# Altium integrated library Resistors_CPF-0805.IntLib: 984 symbols (part 6 of 6)
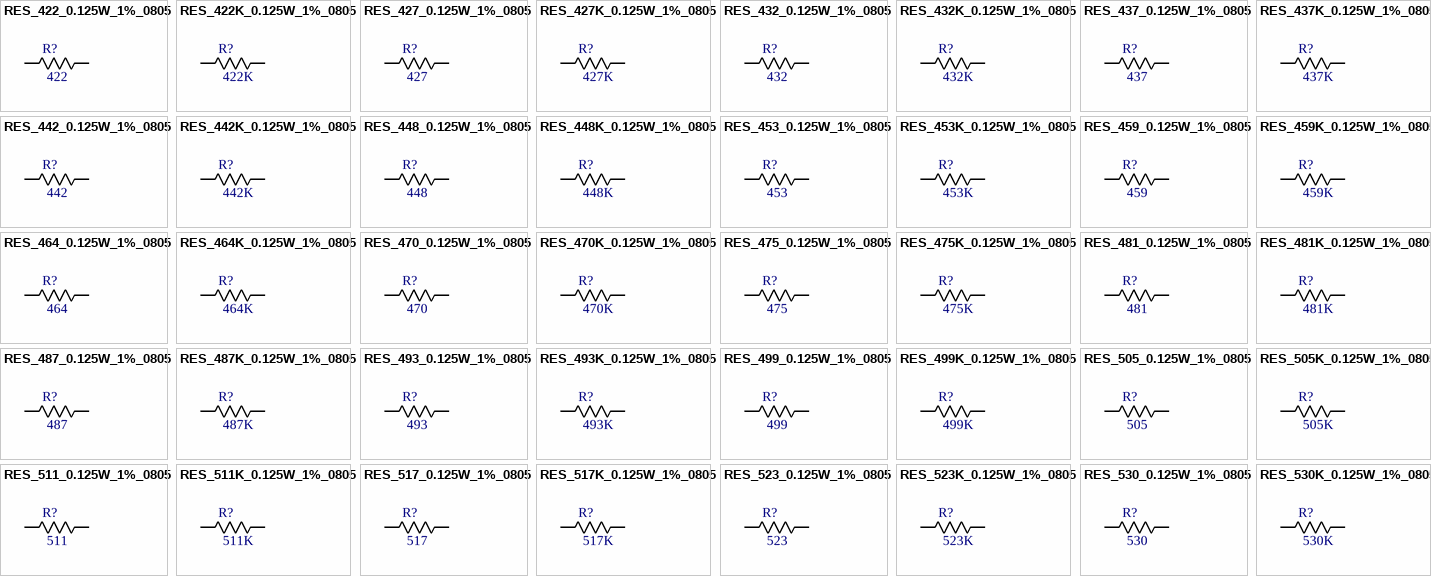
[diagram p29: symbols RES_422_0.125W_1%_0805 to RES_530K_0.125W_1%_0805]

## RES_499_0.125W_1%_0805
designator R?, comment 499
Resistenza SMD TE Connectivity Film sottile; Voltage[V]: 100; Tollerance[%]: 0.1; Serie: CPF; Vendor: TE Connectivity; Type: Resistors; Package: 0805; Power[W]: 0.1; Value[OHM ]: 499
footprint RES_0816_SUS(My_MAXI)
pins: 1, 2

## RES_499K_0.125W_1%_0805
designator R?, comment 499K
Resistenza SMD TE Connectivity Film sottile; Voltage[V]: 100; Tollerance[%]: 0.1; Serie: CPF; Vendor: TE Connectivity; Type: Resistors; Package: 0805; Power[W]: 0.1; Value[OHM ]: 499K
footprint RES_0816_SUS(My_MAXI)
pins: 1, 2

## RES_505_0.125W_1%_0805
designator R?, comment 505
Resistenza SMD TE Connectivity Film sottile; Voltage[V]: 100; Tollerance[%]: 0.1; Serie: CPF; Vendor: TE Connectivity; Type: Resistors; Package: 0805; Power[W]: 0.1; Value[OHM ]: 505
footprint RES_0816_SUS(My_MAXI)
pins: 1, 2

## RES_505K_0.125W_1%_0805
designator R?, comment 505K
Resistenza SMD TE Connectivity Film sottile; Voltage[V]: 100; Tollerance[%]: 0.1; Serie: CPF; Vendor: TE Connectivity; Type: Resistors; Package: 0805; Power[W]: 0.1; Value[OHM ]: 505K
footprint RES_0816_SUS(My_MAXI)
pins: 1, 2

## RES_511_0.125W_1%_0805
designator R?, comment 511
Resistenza SMD TE Connectivity Film sottile; Voltage[V]: 100; Tollerance[%]: 0.1; Serie: CPF; Vendor: TE Connectivity; Type: Resistors; Package: 0805; Power[W]: 0.1; Value[OHM ]: 511
footprint RES_0816_SUS(My_MAXI)
pins: 1, 2

## RES_511K_0.125W_1%_0805
designator R?, comment 511K
Resistenza SMD TE Connectivity Film sottile; Voltage[V]: 100; Tollerance[%]: 0.1; Serie: CPF; Vendor: TE Connectivity; Type: Resistors; Package: 0805; Power[W]: 0.1; Value[OHM ]: 511K
footprint RES_0816_SUS(My_MAXI)
pins: 1, 2

## RES_517_0.125W_1%_0805
designator R?, comment 517
Resistenza SMD TE Connectivity Film sottile; Voltage[V]: 100; Tollerance[%]: 0.1; Serie: CPF; Vendor: TE Connectivity; Type: Resistors; Package: 0805; Power[W]: 0.1; Value[OHM ]: 517
footprint RES_0816_SUS(My_MAXI)
pins: 1, 2

## RES_517K_0.125W_1%_0805
designator R?, comment 517K
Resistenza SMD TE Connectivity Film sottile; Voltage[V]: 100; Tollerance[%]: 0.1; Serie: CPF; Vendor: TE Connectivity; Type: Resistors; Package: 0805; Power[W]: 0.1; Value[OHM ]: 517K
footprint RES_0816_SUS(My_MAXI)
pins: 1, 2

## RES_523_0.125W_1%_0805
designator R?, comment 523
Resistenza SMD TE Connectivity Film sottile; Voltage[V]: 100; Tollerance[%]: 0.1; Serie: CPF; Vendor: TE Connectivity; Type: Resistors; Package: 0805; Power[W]: 0.1; Value[OHM ]: 523
footprint RES_0816_SUS(My_MAXI)
pins: 1, 2

## RES_523K_0.125W_1%_0805
designator R?, comment 523K
Resistenza SMD TE Connectivity Film sottile; Voltage[V]: 100; Tollerance[%]: 0.1; Serie: CPF; Vendor: TE Connectivity; Type: Resistors; Package: 0805; Power[W]: 0.1; Value[OHM ]: 523K
footprint RES_0816_SUS(My_MAXI)
pins: 1, 2

## RES_530_0.125W_1%_0805
designator R?, comment 530
Resistenza SMD TE Connectivity Film sottile; Voltage[V]: 100; Tollerance[%]: 0.1; Serie: CPF; Vendor: TE Connectivity; Type: Resistors; Package: 0805; Power[W]: 0.1; Value[OHM ]: 530
footprint RES_0816_SUS(My_MAXI)
pins: 1, 2

## RES_530K_0.125W_1%_0805
designator R?, comment 530K
Resistenza SMD TE Connectivity Film sottile; Voltage[V]: 100; Tollerance[%]: 0.1; Serie: CPF; Vendor: TE Connectivity; Type: Resistors; Package: 0805; Power[W]: 0.1; Value[OHM ]: 530K
footprint RES_0816_SUS(My_MAXI)
pins: 1, 2

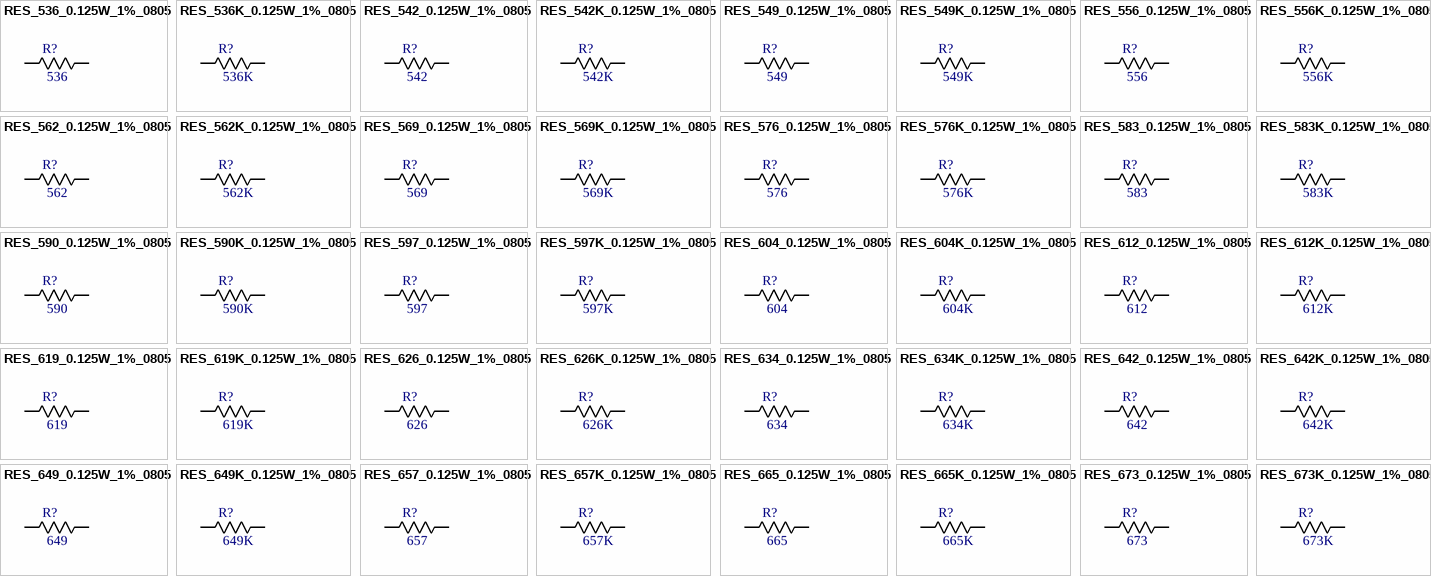
[diagram p22: symbols RES_536_0.125W_1%_0805 to RES_673K_0.125W_1%_0805]

## RES_536_0.125W_1%_0805
designator R?, comment 536
Resistenza SMD TE Connectivity Film sottile; Voltage[V]: 100; Tollerance[%]: 0.1; Serie: CPF; Vendor: TE Connectivity; Type: Resistors; Package: 0805; Power[W]: 0.1; Value[OHM ]: 536
footprint RES_0816_SUS(My_MAXI)
pins: 1, 2

## RES_536K_0.125W_1%_0805
designator R?, comment 536K
Resistenza SMD TE Connectivity Film sottile; Voltage[V]: 100; Tollerance[%]: 0.1; Serie: CPF; Vendor: TE Connectivity; Type: Resistors; Package: 0805; Power[W]: 0.1; Value[OHM ]: 536K
footprint RES_0816_SUS(My_MAXI)
pins: 1, 2

## RES_542_0.125W_1%_0805
designator R?, comment 542
Resistenza SMD TE Connectivity Film sottile; Voltage[V]: 100; Tollerance[%]: 0.1; Serie: CPF; Vendor: TE Connectivity; Type: Resistors; Package: 0805; Power[W]: 0.1; Value[OHM ]: 542
footprint RES_0816_SUS(My_MAXI)
pins: 1, 2

## RES_542K_0.125W_1%_0805
designator R?, comment 542K
Resistenza SMD TE Connectivity Film sottile; Voltage[V]: 100; Tollerance[%]: 0.1; Serie: CPF; Vendor: TE Connectivity; Type: Resistors; Package: 0805; Power[W]: 0.1; Value[OHM ]: 542K
footprint RES_0816_SUS(My_MAXI)
pins: 1, 2

## RES_549_0.125W_1%_0805
designator R?, comment 549
Resistenza SMD TE Connectivity Film sottile; Voltage[V]: 100; Tollerance[%]: 0.1; Serie: CPF; Vendor: TE Connectivity; Type: Resistors; Package: 0805; Power[W]: 0.1; Value[OHM ]: 549
footprint RES_0816_SUS(My_MAXI)
pins: 1, 2

## RES_549K_0.125W_1%_0805
designator R?, comment 549K
Resistenza SMD TE Connectivity Film sottile; Voltage[V]: 100; Tollerance[%]: 0.1; Serie: CPF; Vendor: TE Connectivity; Type: Resistors; Package: 0805; Power[W]: 0.1; Value[OHM ]: 549K
footprint RES_0816_SUS(My_MAXI)
pins: 1, 2

## RES_556_0.125W_1%_0805
designator R?, comment 556
Resistenza SMD TE Connectivity Film sottile; Voltage[V]: 100; Tollerance[%]: 0.1; Serie: CPF; Vendor: TE Connectivity; Type: Resistors; Package: 0805; Power[W]: 0.1; Value[OHM ]: 556
footprint RES_0816_SUS(My_MAXI)
pins: 1, 2

## RES_556K_0.125W_1%_0805
designator R?, comment 556K
Resistenza SMD TE Connectivity Film sottile; Voltage[V]: 100; Tollerance[%]: 0.1; Serie: CPF; Vendor: TE Connectivity; Type: Resistors; Package: 0805; Power[W]: 0.1; Value[OHM ]: 556K
footprint RES_0816_SUS(My_MAXI)
pins: 1, 2

## RES_562_0.125W_1%_0805
designator R?, comment 562
Resistenza SMD TE Connectivity Film sottile; Voltage[V]: 100; Tollerance[%]: 0.1; Serie: CPF; Vendor: TE Connectivity; Type: Resistors; Package: 0805; Power[W]: 0.1; Value[OHM ]: 562
footprint RES_0816_SUS(My_MAXI)
pins: 1, 2

## RES_562K_0.125W_1%_0805
designator R?, comment 562K
Resistenza SMD TE Connectivity Film sottile; Voltage[V]: 100; Tollerance[%]: 0.1; Serie: CPF; Vendor: TE Connectivity; Type: Resistors; Package: 0805; Power[W]: 0.1; Value[OHM ]: 562K
footprint RES_0816_SUS(My_MAXI)
pins: 1, 2

## RES_569_0.125W_1%_0805
designator R?, comment 569
Resistenza SMD TE Connectivity Film sottile; Voltage[V]: 100; Tollerance[%]: 0.1; Serie: CPF; Vendor: TE Connectivity; Type: Resistors; Package: 0805; Power[W]: 0.1; Value[OHM ]: 569
footprint RES_0816_SUS(My_MAXI)
pins: 1, 2

## RES_569K_0.125W_1%_0805
designator R?, comment 569K
Resistenza SMD TE Connectivity Film sottile; Voltage[V]: 100; Tollerance[%]: 0.1; Serie: CPF; Vendor: TE Connectivity; Type: Resistors; Package: 0805; Power[W]: 0.1; Value[OHM ]: 569K
footprint RES_0816_SUS(My_MAXI)
pins: 1, 2

## RES_576_0.125W_1%_0805
designator R?, comment 576
Resistenza SMD TE Connectivity Film sottile; Voltage[V]: 100; Tollerance[%]: 0.1; Serie: CPF; Vendor: TE Connectivity; Type: Resistors; Package: 0805; Power[W]: 0.1; Value[OHM ]: 576
footprint RES_0816_SUS(My_MAXI)
pins: 1, 2

## RES_576K_0.125W_1%_0805
designator R?, comment 576K
Resistenza SMD TE Connectivity Film sottile; Voltage[V]: 100; Tollerance[%]: 0.1; Serie: CPF; Vendor: TE Connectivity; Type: Resistors; Package: 0805; Power[W]: 0.1; Value[OHM ]: 576K
footprint RES_0816_SUS(My_MAXI)
pins: 1, 2

## RES_583_0.125W_1%_0805
designator R?, comment 583
Resistenza SMD TE Connectivity Film sottile; Voltage[V]: 100; Tollerance[%]: 0.1; Serie: CPF; Vendor: TE Connectivity; Type: Resistors; Package: 0805; Power[W]: 0.1; Value[OHM ]: 583
footprint RES_0816_SUS(My_MAXI)
pins: 1, 2

## RES_583K_0.125W_1%_0805
designator R?, comment 583K
Resistenza SMD TE Connectivity Film sottile; Voltage[V]: 100; Tollerance[%]: 0.1; Serie: CPF; Vendor: TE Connectivity; Type: Resistors; Package: 0805; Power[W]: 0.1; Value[OHM ]: 583K
footprint RES_0816_SUS(My_MAXI)
pins: 1, 2

## RES_590_0.125W_1%_0805
designator R?, comment 590
Resistenza SMD TE Connectivity Film sottile; Voltage[V]: 100; Tollerance[%]: 0.1; Serie: CPF; Vendor: TE Connectivity; Type: Resistors; Package: 0805; Power[W]: 0.1; Value[OHM ]: 590
footprint RES_0816_SUS(My_MAXI)
pins: 1, 2

## RES_590K_0.125W_1%_0805
designator R?, comment 590K
Resistenza SMD TE Connectivity Film sottile; Voltage[V]: 100; Tollerance[%]: 0.1; Serie: CPF; Vendor: TE Connectivity; Type: Resistors; Package: 0805; Power[W]: 0.1; Value[OHM ]: 590K
footprint RES_0816_SUS(My_MAXI)
pins: 1, 2

## RES_597_0.125W_1%_0805
designator R?, comment 597
Resistenza SMD TE Connectivity Film sottile; Voltage[V]: 100; Tollerance[%]: 0.1; Serie: CPF; Vendor: TE Connectivity; Type: Resistors; Package: 0805; Power[W]: 0.1; Value[OHM ]: 597
footprint RES_0816_SUS(My_MAXI)
pins: 1, 2

## RES_597K_0.125W_1%_0805
designator R?, comment 597K
Resistenza SMD TE Connectivity Film sottile; Voltage[V]: 100; Tollerance[%]: 0.1; Serie: CPF; Vendor: TE Connectivity; Type: Resistors; Package: 0805; Power[W]: 0.1; Value[OHM ]: 597K
footprint RES_0816_SUS(My_MAXI)
pins: 1, 2

## RES_604_0.125W_1%_0805
designator R?, comment 604
Resistenza SMD TE Connectivity Film sottile; Voltage[V]: 100; Tollerance[%]: 0.1; Serie: CPF; Vendor: TE Connectivity; Type: Resistors; Package: 0805; Power[W]: 0.1; Value[OHM ]: 604
footprint RES_0816_SUS(My_MAXI)
pins: 1, 2

## RES_604K_0.125W_1%_0805
designator R?, comment 604K
Resistenza SMD TE Connectivity Film sottile; Voltage[V]: 100; Tollerance[%]: 0.1; Serie: CPF; Vendor: TE Connectivity; Type: Resistors; Package: 0805; Power[W]: 0.1; Value[OHM ]: 604K
footprint RES_0816_SUS(My_MAXI)
pins: 1, 2

## RES_612_0.125W_1%_0805
designator R?, comment 612
Resistenza SMD TE Connectivity Film sottile; Voltage[V]: 100; Tollerance[%]: 0.1; Serie: CPF; Vendor: TE Connectivity; Type: Resistors; Package: 0805; Power[W]: 0.1; Value[OHM ]: 612
footprint RES_0816_SUS(My_MAXI)
pins: 1, 2

## RES_612K_0.125W_1%_0805
designator R?, comment 612K
Resistenza SMD TE Connectivity Film sottile; Voltage[V]: 100; Tollerance[%]: 0.1; Serie: CPF; Vendor: TE Connectivity; Type: Resistors; Package: 0805; Power[W]: 0.1; Value[OHM ]: 612K
footprint RES_0816_SUS(My_MAXI)
pins: 1, 2

## RES_619_0.125W_1%_0805
designator R?, comment 619
Resistenza SMD TE Connectivity Film sottile; Voltage[V]: 100; Tollerance[%]: 0.1; Serie: CPF; Vendor: TE Connectivity; Type: Resistors; Package: 0805; Power[W]: 0.1; Value[OHM ]: 619
footprint RES_0816_SUS(My_MAXI)
pins: 1, 2

## RES_619K_0.125W_1%_0805
designator R?, comment 619K
Resistenza SMD TE Connectivity Film sottile; Voltage[V]: 100; Tollerance[%]: 0.1; Serie: CPF; Vendor: TE Connectivity; Type: Resistors; Package: 0805; Power[W]: 0.1; Value[OHM ]: 619K
footprint RES_0816_SUS(My_MAXI)
pins: 1, 2

## RES_626_0.125W_1%_0805
designator R?, comment 626
Resistenza SMD TE Connectivity Film sottile; Voltage[V]: 100; Tollerance[%]: 0.1; Serie: CPF; Vendor: TE Connectivity; Type: Resistors; Package: 0805; Power[W]: 0.1; Value[OHM ]: 626
footprint RES_0816_SUS(My_MAXI)
pins: 1, 2

## RES_626K_0.125W_1%_0805
designator R?, comment 626K
Resistenza SMD TE Connectivity Film sottile; Voltage[V]: 100; Tollerance[%]: 0.1; Serie: CPF; Vendor: TE Connectivity; Type: Resistors; Package: 0805; Power[W]: 0.1; Value[OHM ]: 626K
footprint RES_0816_SUS(My_MAXI)
pins: 1, 2

## RES_634_0.125W_1%_0805
designator R?, comment 634
Resistenza SMD TE Connectivity Film sottile; Manufacturer_Part_Number: CPF0805B100RE; Voltage[V]: 100; Tollerance[%]: 0.1; Serie: CPF; Codice RS: 666-2516; Vendor: TE Connectivity; Type: Resistors; Package: 0805; Power[W]: 0.1; Value[OHM ]: 634
footprint RES_0816_SUS(My_MAXI)
pins: 1, 2

## RES_634K_0.125W_1%_0805
designator R?, comment 634K
Resistenza SMD TE Connectivity Film sottile; Voltage[V]: 100; Tollerance[%]: 0.1; Serie: CPF; Vendor: TE Connectivity; Type: Resistors; Package: 0805; Power[W]: 0.1; Value[OHM ]: 634K
footprint RES_0816_SUS(My_MAXI)
pins: 1, 2

## RES_642_0.125W_1%_0805
designator R?, comment 642
Resistenza SMD TE Connectivity Film sottile; Voltage[V]: 100; Tollerance[%]: 0.1; Serie: CPF; Vendor: TE Connectivity; Type: Resistors; Package: 0805; Power[W]: 0.1; Value[OHM ]: 642
footprint RES_0816_SUS(My_MAXI)
pins: 1, 2

## RES_642K_0.125W_1%_0805
designator R?, comment 642K
Resistenza SMD TE Connectivity Film sottile; Voltage[V]: 100; Tollerance[%]: 0.1; Serie: CPF; Vendor: TE Connectivity; Type: Resistors; Package: 0805; Power[W]: 0.1; Value[OHM ]: 642K
footprint RES_0816_SUS(My_MAXI)
pins: 1, 2

## RES_649_0.125W_1%_0805
designator R?, comment 649
Resistenza SMD TE Connectivity Film sottile; Voltage[V]: 100; Tollerance[%]: 0.1; Serie: CPF; Vendor: TE Connectivity; Type: Resistors; Package: 0805; Power[W]: 0.1; Value[OHM ]: 649
footprint RES_0816_SUS(My_MAXI)
pins: 1, 2

## RES_649K_0.125W_1%_0805
designator R?, comment 649K
Resistenza SMD TE Connectivity Film sottile; Voltage[V]: 100; Tollerance[%]: 0.1; Serie: CPF; Vendor: TE Connectivity; Type: Resistors; Package: 0805; Power[W]: 0.1; Value[OHM ]: 649K
footprint RES_0816_SUS(My_MAXI)
pins: 1, 2

## RES_657_0.125W_1%_0805
designator R?, comment 657
Resistenza SMD TE Connectivity Film sottile; Voltage[V]: 100; Tollerance[%]: 0.1; Serie: CPF; Vendor: TE Connectivity; Type: Resistors; Package: 0805; Power[W]: 0.1; Value[OHM ]: 657
footprint RES_0816_SUS(My_MAXI)
pins: 1, 2

## RES_657K_0.125W_1%_0805
designator R?, comment 657K
Resistenza SMD TE Connectivity Film sottile; Voltage[V]: 100; Tollerance[%]: 0.1; Serie: CPF; Vendor: TE Connectivity; Type: Resistors; Package: 0805; Power[W]: 0.1; Value[OHM ]: 657K
footprint RES_0816_SUS(My_MAXI)
pins: 1, 2

## RES_665_0.125W_1%_0805
designator R?, comment 665
Resistenza SMD TE Connectivity Film sottile; Voltage[V]: 100; Tollerance[%]: 0.1; Serie: CPF; Vendor: TE Connectivity; Type: Resistors; Package: 0805; Power[W]: 0.1; Value[OHM ]: 665
footprint RES_0816_SUS(My_MAXI)
pins: 1, 2

## RES_665K_0.125W_1%_0805
designator R?, comment 665K
Resistenza SMD TE Connectivity Film sottile; Voltage[V]: 100; Tollerance[%]: 0.1; Serie: CPF; Vendor: TE Connectivity; Type: Resistors; Package: 0805; Power[W]: 0.1; Value[OHM ]: 665K
footprint RES_0816_SUS(My_MAXI)
pins: 1, 2

## RES_673_0.125W_1%_0805
designator R?, comment 673
Resistenza SMD TE Connectivity Film sottile; Voltage[V]: 100; Tollerance[%]: 0.1; Serie: CPF; Vendor: TE Connectivity; Type: Resistors; Package: 0805; Power[W]: 0.1; Value[OHM ]: 673
footprint RES_0816_SUS(My_MAXI)
pins: 1, 2

## RES_673K_0.125W_1%_0805
designator R?, comment 673K
Resistenza SMD TE Connectivity Film sottile; Voltage[V]: 100; Tollerance[%]: 0.1; Serie: CPF; Vendor: TE Connectivity; Type: Resistors; Package: 0805; Power[W]: 0.1; Value[OHM ]: 673K
footprint RES_0816_SUS(My_MAXI)
pins: 1, 2

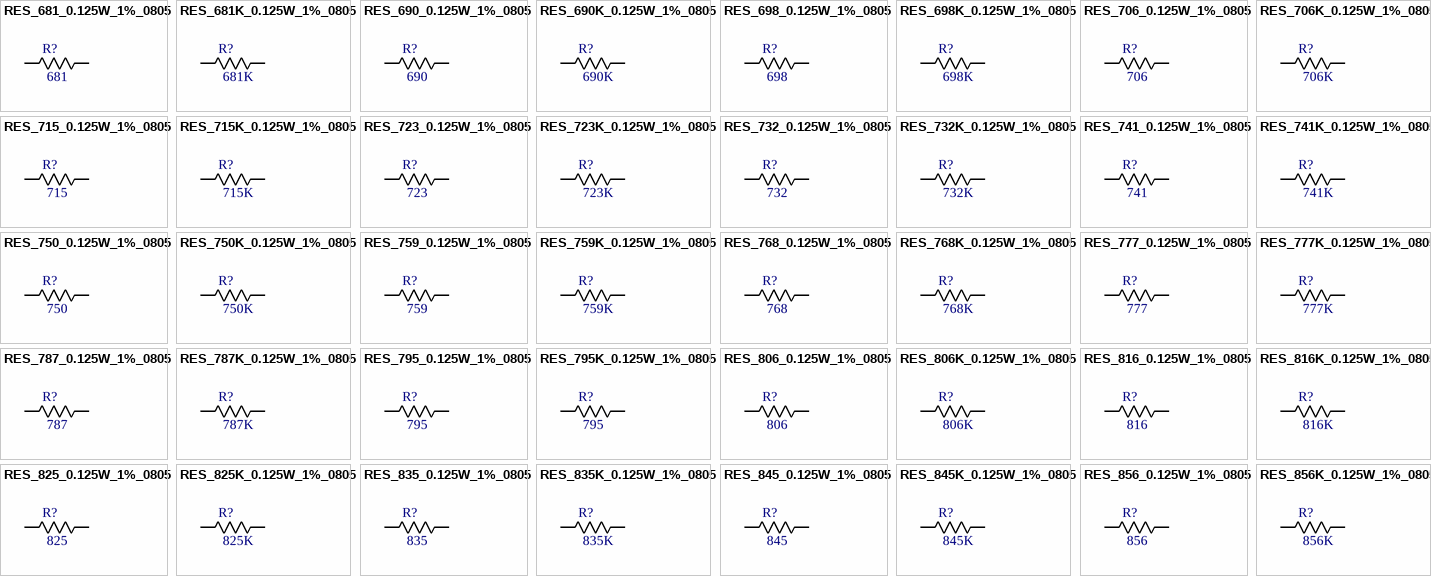
[diagram p23: symbols RES_681_0.125W_1%_0805 to RES_856K_0.125W_1%_0805]

## RES_681_0.125W_1%_0805
designator R?, comment 681
Resistenza SMD TE Connectivity Film sottile; Voltage[V]: 100; Tollerance[%]: 0.1; Serie: CPF; Vendor: TE Connectivity; Type: Resistors; Package: 0805; Power[W]: 0.1; Value[OHM ]: 681
footprint RES_0816_SUS(My_MAXI)
pins: 1, 2

## RES_681K_0.125W_1%_0805
designator R?, comment 681K
Resistenza SMD TE Connectivity Film sottile; Voltage[V]: 100; Tollerance[%]: 0.1; Serie: CPF; Vendor: TE Connectivity; Type: Resistors; Package: 0805; Power[W]: 0.1; Value[OHM ]: 681K
footprint RES_0816_SUS(My_MAXI)
pins: 1, 2

## RES_690_0.125W_1%_0805
designator R?, comment 690
Resistenza SMD TE Connectivity Film sottile; Voltage[V]: 100; Tollerance[%]: 0.1; Serie: CPF; Vendor: TE Connectivity; Type: Resistors; Package: 0805; Power[W]: 0.1; Value[OHM ]: 690
footprint RES_0816_SUS(My_MAXI)
pins: 1, 2

## RES_690K_0.125W_1%_0805
designator R?, comment 690K
Resistenza SMD TE Connectivity Film sottile; Voltage[V]: 100; Tollerance[%]: 0.1; Serie: CPF; Vendor: TE Connectivity; Type: Resistors; Package: 0805; Power[W]: 0.1; Value[OHM ]: 690K
footprint RES_0816_SUS(My_MAXI)
pins: 1, 2

## RES_698_0.125W_1%_0805
designator R?, comment 698
Resistenza SMD TE Connectivity Film sottile; Voltage[V]: 100; Tollerance[%]: 0.1; Serie: CPF; Codice RS: 16; Vendor: TE Connectivity; Type: Resistors; Package: 0805; Power[W]: 0.1; Value[OHM ]: 698
footprint RES_0816_SUS(My_MAXI)
pins: 1, 2

## RES_698K_0.125W_1%_0805
designator R?, comment 698K
Resistenza SMD TE Connectivity Film sottile; Voltage[V]: 100; Tollerance[%]: 0.1; Serie: CPF; Vendor: TE Connectivity; Type: Resistors; Package: 0805; Power[W]: 0.1; Value[OHM ]: 698K
footprint RES_0816_SUS(My_MAXI)
pins: 1, 2

## RES_706_0.125W_1%_0805
designator R?, comment 706
Resistenza SMD TE Connectivity Film sottile; Voltage[V]: 100; Tollerance[%]: 0.1; Serie: CPF; Vendor: TE Connectivity; Type: Resistors; Package: 0805; Power[W]: 0.1; Value[OHM ]: 706
footprint RES_0816_SUS(My_MAXI)
pins: 1, 2

## RES_706K_0.125W_1%_0805
designator R?, comment 706K
Resistenza SMD TE Connectivity Film sottile; Voltage[V]: 100; Tollerance[%]: 0.1; Serie: CPF; Vendor: TE Connectivity; Type: Resistors; Package: 0805; Power[W]: 0.1; Value[OHM ]: 706K
footprint RES_0816_SUS(My_MAXI)
pins: 1, 2

## RES_715_0.125W_1%_0805
designator R?, comment 715
Resistenza SMD TE Connectivity Film sottile; Voltage[V]: 100; Tollerance[%]: 0.1; Serie: CPF; Vendor: TE Connectivity; Type: Resistors; Package: 0805; Power[W]: 0.1; Value[OHM ]: 715
footprint RES_0816_SUS(My_MAXI)
pins: 1, 2

## RES_715K_0.125W_1%_0805
designator R?, comment 715K
Resistenza SMD TE Connectivity Film sottile; Voltage[V]: 100; Tollerance[%]: 0.1; Serie: CPF; Vendor: TE Connectivity; Type: Resistors; Package: 0805; Power[W]: 0.1; Value[OHM ]: 715K
footprint RES_0816_SUS(My_MAXI)
pins: 1, 2

## RES_723_0.125W_1%_0805
designator R?, comment 723
Resistenza SMD TE Connectivity Film sottile; Voltage[V]: 100; Tollerance[%]: 0.1; Serie: CPF; Vendor: TE Connectivity; Type: Resistors; Package: 0805; Power[W]: 0.1; Value[OHM ]: 723
footprint RES_0816_SUS(My_MAXI)
pins: 1, 2

## RES_723K_0.125W_1%_0805
designator R?, comment 723K
Resistenza SMD TE Connectivity Film sottile; Voltage[V]: 100; Tollerance[%]: 0.1; Serie: CPF; Vendor: TE Connectivity; Type: Resistors; Package: 0805; Power[W]: 0.1; Value[OHM ]: 723K
footprint RES_0816_SUS(My_MAXI)
pins: 1, 2

## RES_732_0.125W_1%_0805
designator R?, comment 732
Resistenza SMD TE Connectivity Film sottile; Voltage[V]: 100; Tollerance[%]: 0.1; Serie: CPF; Vendor: TE Connectivity; Type: Resistors; Package: 0805; Power[W]: 0.1; Value[OHM ]: 732
footprint RES_0816_SUS(My_MAXI)
pins: 1, 2

## RES_732K_0.125W_1%_0805
designator R?, comment 732K
Resistenza SMD TE Connectivity Film sottile; Voltage[V]: 100; Tollerance[%]: 0.1; Serie: CPF; Vendor: TE Connectivity; Type: Resistors; Package: 0805; Power[W]: 0.1; Value[OHM ]: 732K
footprint RES_0816_SUS(My_MAXI)
pins: 1, 2

## RES_741_0.125W_1%_0805
designator R?, comment 741
Resistenza SMD TE Connectivity Film sottile; Voltage[V]: 100; Tollerance[%]: 0.1; Serie: CPF; Vendor: TE Connectivity; Type: Resistors; Package: 0805; Power[W]: 0.1; Value[OHM ]: 741
footprint RES_0816_SUS(My_MAXI)
pins: 1, 2

## RES_741K_0.125W_1%_0805
designator R?, comment 741K
Resistenza SMD TE Connectivity Film sottile; Voltage[V]: 100; Tollerance[%]: 0.1; Serie: CPF; Vendor: TE Connectivity; Type: Resistors; Package: 0805; Power[W]: 0.1; Value[OHM ]: 741K
footprint RES_0816_SUS(My_MAXI)
pins: 1, 2

## RES_750_0.125W_1%_0805
designator R?, comment 750
Resistenza SMD TE Connectivity Film sottile; Voltage[V]: 100; Tollerance[%]: 0.1; Serie: CPF; Vendor: TE Connectivity; Type: Resistors; Package: 0805; Power[W]: 0.1; Value[OHM ]: 750
footprint RES_0816_SUS(My_MAXI)
pins: 1, 2

## RES_750K_0.125W_1%_0805
designator R?, comment 750K
Resistenza SMD TE Connectivity Film sottile; Voltage[V]: 100; Tollerance[%]: 0.1; Serie: CPF; Vendor: TE Connectivity; Type: Resistors; Package: 0805; Power[W]: 0.1; Value[OHM ]: 750K
footprint RES_0816_SUS(My_MAXI)
pins: 1, 2

## RES_759_0.125W_1%_0805
designator R?, comment 759
Resistenza SMD TE Connectivity Film sottile; Voltage[V]: 100; Tollerance[%]: 0.1; Serie: CPF; Vendor: TE Connectivity; Type: Resistors; Package: 0805; Power[W]: 0.1; Value[OHM ]: 759
footprint RES_0816_SUS(My_MAXI)
pins: 1, 2

## RES_759K_0.125W_1%_0805
designator R?, comment 759K
Resistenza SMD TE Connectivity Film sottile; Voltage[V]: 100; Tollerance[%]: 0.1; Serie: CPF; Vendor: TE Connectivity; Type: Resistors; Package: 0805; Power[W]: 0.1; Value[OHM ]: 759K
footprint RES_0816_SUS(My_MAXI)
pins: 1, 2

## RES_768_0.125W_1%_0805
designator R?, comment 768
Resistenza SMD TE Connectivity Film sottile; Voltage[V]: 100; Tollerance[%]: 0.1; Serie: CPF; Vendor: TE Connectivity; Type: Resistors; Package: 0805; Power[W]: 0.1; Value[OHM ]: 768
footprint RES_0816_SUS(My_MAXI)
pins: 1, 2

## RES_768K_0.125W_1%_0805
designator R?, comment 768K
Resistenza SMD TE Connectivity Film sottile; Voltage[V]: 100; Tollerance[%]: 0.1; Serie: CPF; Vendor: TE Connectivity; Type: Resistors; Package: 0805; Power[W]: 0.1; Value[OHM ]: 768K
footprint RES_0816_SUS(My_MAXI)
pins: 1, 2

## RES_777_0.125W_1%_0805
designator R?, comment 777
Resistenza SMD TE Connectivity Film sottile; Voltage[V]: 100; Tollerance[%]: 0.1; Serie: CPF; Vendor: TE Connectivity; Type: Resistors; Package: 0805; Power[W]: 0.1; Value[OHM ]: 777
footprint RES_0816_SUS(My_MAXI)
pins: 1, 2

## RES_777K_0.125W_1%_0805
designator R?, comment 777K
Resistenza SMD TE Connectivity Film sottile; Voltage[V]: 100; Tollerance[%]: 0.1; Serie: CPF; Vendor: TE Connectivity; Type: Resistors; Package: 0805; Power[W]: 0.1; Value[OHM ]: 777K
footprint RES_0816_SUS(My_MAXI)
pins: 1, 2

## RES_787_0.125W_1%_0805
designator R?, comment 787
Resistenza SMD TE Connectivity Film sottile; Voltage[V]: 100; Tollerance[%]: 0.1; Serie: CPF; Vendor: TE Connectivity; Type: Resistors; Package: 0805; Power[W]: 0.1; Value[OHM ]: 787
footprint RES_0816_SUS(My_MAXI)
pins: 1, 2

## RES_787K_0.125W_1%_0805
designator R?, comment 787K
Resistenza SMD TE Connectivity Film sottile; Voltage[V]: 100; Tollerance[%]: 0.1; Serie: CPF; Vendor: TE Connectivity; Type: Resistors; Package: 0805; Power[W]: 0.1; Value[OHM ]: 787K
footprint RES_0816_SUS(My_MAXI)
pins: 1, 2

## RES_795_0.125W_1%_0805
designator R?, comment 795
Resistenza SMD TE Connectivity Film sottile; Voltage[V]: 100; Tollerance[%]: 0.1; Serie: CPF; Vendor: TE Connectivity; Type: Resistors; Package: 0805; Power[W]: 0.1; Value[OHM ]: 795
footprint RES_0816_SUS(My_MAXI)
pins: 1, 2

## RES_795K_0.125W_1%_0805
designator R?, comment 795
Resistenza SMD TE Connectivity Film sottile; Voltage[V]: 100; Tollerance[%]: 0.1; Serie: CPF; Vendor: TE Connectivity; Type: Resistors; Package: 0805; Power[W]: 0.1; Value[OHM ]: 795
footprint RES_0816_SUS(My_MAXI)
pins: 1, 2

## RES_806_0.125W_1%_0805
designator R?, comment 806
Resistenza SMD TE Connectivity Film sottile; Voltage[V]: 100; Tollerance[%]: 0.1; Serie: CPF; Vendor: TE Connectivity; Type: Resistors; Package: 0805; Power[W]: 0.1; Value[OHM ]: 806
footprint RES_0816_SUS(My_MAXI)
pins: 1, 2

## RES_806K_0.125W_1%_0805
designator R?, comment 806K
Resistenza SMD TE Connectivity Film sottile; Voltage[V]: 100; Tollerance[%]: 0.1; Serie: CPF; Vendor: TE Connectivity; Type: Resistors; Package: 0805; Power[W]: 0.1; Value[OHM ]: 806K
footprint RES_0816_SUS(My_MAXI)
pins: 1, 2

## RES_816_0.125W_1%_0805
designator R?, comment 816
Resistenza SMD TE Connectivity Film sottile; Voltage[V]: 100; Tollerance[%]: 0.1; Serie: CPF; Vendor: TE Connectivity; Type: Resistors; Package: 0805; Power[W]: 0.1; Value[OHM ]: 816
footprint RES_0816_SUS(My_MAXI)
pins: 1, 2

## RES_816K_0.125W_1%_0805
designator R?, comment 816K
Resistenza SMD TE Connectivity Film sottile; Voltage[V]: 100; Tollerance[%]: 0.1; Serie: CPF; Vendor: TE Connectivity; Type: Resistors; Package: 0805; Power[W]: 0.1; Value[OHM ]: 816K
footprint RES_0816_SUS(My_MAXI)
pins: 1, 2

## RES_825_0.125W_1%_0805
designator R?, comment 825
Resistenza SMD TE Connectivity Film sottile; Voltage[V]: 100; Tollerance[%]: 0.1; Serie: CPF; Vendor: TE Connectivity; Type: Resistors; Package: 0805; Power[W]: 0.1; Value[OHM ]: 825
footprint RES_0816_SUS(My_MAXI)
pins: 1, 2

## RES_825K_0.125W_1%_0805
designator R?, comment 825K
Resistenza SMD TE Connectivity Film sottile; Voltage[V]: 100; Tollerance[%]: 0.1; Serie: CPF; Vendor: TE Connectivity; Type: Resistors; Package: 0805; Power[W]: 0.1; Value[OHM ]: 825K
footprint RES_0816_SUS(My_MAXI)
pins: 1, 2

## RES_835_0.125W_1%_0805
designator R?, comment 835
Resistenza SMD TE Connectivity Film sottile; Voltage[V]: 100; Tollerance[%]: 0.1; Serie: CPF; Vendor: TE Connectivity; Type: Resistors; Package: 0805; Power[W]: 0.1; Value[OHM ]: 835
footprint RES_0816_SUS(My_MAXI)
pins: 1, 2

## RES_835K_0.125W_1%_0805
designator R?, comment 835K
Resistenza SMD TE Connectivity Film sottile; Voltage[V]: 100; Tollerance[%]: 0.1; Serie: CPF; Vendor: TE Connectivity; Type: Resistors; Package: 0805; Power[W]: 0.1; Value[OHM ]: 835K
footprint RES_0816_SUS(My_MAXI)
pins: 1, 2

## RES_845_0.125W_1%_0805
designator R?, comment 845
Resistenza SMD TE Connectivity Film sottile; Voltage[V]: 100; Tollerance[%]: 0.1; Serie: CPF; Vendor: TE Connectivity; Type: Resistors; Package: 0805; Power[W]: 0.1; Value[OHM ]: 845
footprint RES_0816_SUS(My_MAXI)
pins: 1, 2

## RES_845K_0.125W_1%_0805
designator R?, comment 845K
Resistenza SMD TE Connectivity Film sottile; Voltage[V]: 100; Tollerance[%]: 0.1; Serie: CPF; Vendor: TE Connectivity; Type: Resistors; Package: 0805; Power[W]: 0.1; Value[OHM ]: 845K
footprint RES_0816_SUS(My_MAXI)
pins: 1, 2

## RES_856_0.125W_1%_0805
designator R?, comment 856
Resistenza SMD TE Connectivity Film sottile; Voltage[V]: 100; Tollerance[%]: 0.1; Serie: CPF; Vendor: TE Connectivity; Type: Resistors; Package: 0805; Power[W]: 0.1; Value[OHM ]: 856
footprint RES_0816_SUS(My_MAXI)
pins: 1, 2

## RES_856K_0.125W_1%_0805
designator R?, comment 856K
Resistenza SMD TE Connectivity Film sottile; Voltage[V]: 100; Tollerance[%]: 0.1; Serie: CPF; Vendor: TE Connectivity; Type: Resistors; Package: 0805; Power[W]: 0.1; Value[OHM ]: 856K
footprint RES_0816_SUS(My_MAXI)
pins: 1, 2

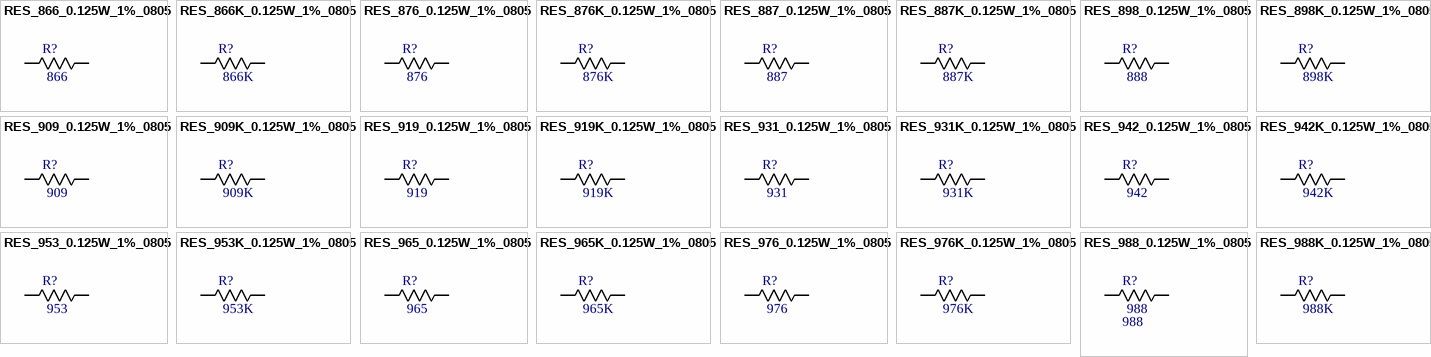
[diagram p24: symbols RES_866_0.125W_1%_0805 to RES_988K_0.125W_1%_0805]

## RES_866_0.125W_1%_0805
designator R?, comment 866
Resistenza SMD TE Connectivity Film sottile; Voltage[V]: 100; Tollerance[%]: 0.1; Serie: CPF; Vendor: TE Connectivity; Type: Resistors; Package: 0805; Power[W]: 0.1; Value[OHM ]: 866
footprint RES_0816_SUS(My_MAXI)
pins: 1, 2

## RES_866K_0.125W_1%_0805
designator R?, comment 866K
Resistenza SMD TE Connectivity Film sottile; Voltage[V]: 100; Tollerance[%]: 0.1; Serie: CPF; Vendor: TE Connectivity; Type: Resistors; Package: 0805; Power[W]: 0.1; Value[OHM ]: 866K
footprint RES_0816_SUS(My_MAXI)
pins: 1, 2

## RES_876_0.125W_1%_0805
designator R?, comment 876
Resistenza SMD TE Connectivity Film sottile; Voltage[V]: 100; Tollerance[%]: 0.1; Serie: CPF; Vendor: TE Connectivity; Type: Resistors; Package: 0805; Power[W]: 0.1; Value[OHM ]: 876
footprint RES_0816_SUS(My_MAXI)
pins: 1, 2

## RES_876K_0.125W_1%_0805
designator R?, comment 876K
Resistenza SMD TE Connectivity Film sottile; Voltage[V]: 100; Tollerance[%]: 0.1; Serie: CPF; Vendor: TE Connectivity; Type: Resistors; Package: 0805; Power[W]: 0.1; Value[OHM ]: 876K
footprint RES_0816_SUS(My_MAXI)
pins: 1, 2

## RES_887_0.125W_1%_0805
designator R?, comment 887
Resistenza SMD TE Connectivity Film sottile; Voltage[V]: 100; Tollerance[%]: 0.1; Serie: CPF; Vendor: TE Connectivity; Type: Resistors; Package: 0805; Power[W]: 0.1; Value[OHM ]: 887
footprint RES_0816_SUS(My_MAXI)
pins: 1, 2

## RES_887K_0.125W_1%_0805
designator R?, comment 887K
Resistenza SMD TE Connectivity Film sottile; Voltage[V]: 100; Tollerance[%]: 0.1; Serie: CPF; Vendor: TE Connectivity; Type: Resistors; Package: 0805; Power[W]: 0.1; Value[OHM ]: 887K
footprint RES_0816_SUS(My_MAXI)
pins: 1, 2

## RES_898_0.125W_1%_0805
designator R?, comment 888
Resistenza SMD TE Connectivity Film sottile; Voltage[V]: 100; Tollerance[%]: 0.1; Serie: CPF; Vendor: TE Connectivity; Type: Resistors; Package: 0805; Power[W]: 0.1; Value[OHM ]: 888
footprint RES_0816_SUS(My_MAXI)
pins: 1, 2

## RES_898K_0.125W_1%_0805
designator R?, comment 898K
Resistenza SMD TE Connectivity Film sottile; Voltage[V]: 100; Tollerance[%]: 0.1; Serie: CPF; Vendor: TE Connectivity; Type: Resistors; Package: 0805; Power[W]: 0.1; Value[OHM ]: 898K
footprint RES_0816_SUS(My_MAXI)
pins: 1, 2

## RES_909_0.125W_1%_0805
designator R?, comment 909
Resistenza SMD TE Connectivity Film sottile; Voltage[V]: 100; Tollerance[%]: 0.1; Serie: CPF; Vendor: TE Connectivity; Type: Resistors; Package: 0805; Power[W]: 0.1; Value[OHM ]: 909
footprint RES_0816_SUS(My_MAXI)
pins: 1, 2

## RES_909K_0.125W_1%_0805
designator R?, comment 909K
Resistenza SMD TE Connectivity Film sottile; Voltage[V]: 100; Tollerance[%]: 0.1; Serie: CPF; Vendor: TE Connectivity; Type: Resistors; Package: 0805; Power[W]: 0.1; Value[OHM ]: 909K
footprint RES_0816_SUS(My_MAXI)
pins: 1, 2

## RES_919_0.125W_1%_0805
designator R?, comment 919
Resistenza SMD TE Connectivity Film sottile; Voltage[V]: 100; Tollerance[%]: 0.1; Serie: CPF; Vendor: TE Connectivity; Type: Resistors; Package: 0805; Power[W]: 0.1; Value[OHM ]: 919
footprint RES_0816_SUS(My_MAXI)
pins: 1, 2

## RES_919K_0.125W_1%_0805
designator R?, comment 919K
Resistenza SMD TE Connectivity Film sottile; Voltage[V]: 100; Tollerance[%]: 0.1; Serie: CPF; Vendor: TE Connectivity; Type: Resistors; Package: 0805; Power[W]: 0.1; Value[OHM ]: 919K
footprint RES_0816_SUS(My_MAXI)
pins: 1, 2

## RES_931_0.125W_1%_0805
designator R?, comment 931
Resistenza SMD TE Connectivity Film sottile; Voltage[V]: 100; Tollerance[%]: 0.1; Serie: CPF; Vendor: TE Connectivity; Type: Resistors; Package: 0805; Power[W]: 0.1; Value[OHM ]: 931
footprint RES_0816_SUS(My_MAXI)
pins: 1, 2

## RES_931K_0.125W_1%_0805
designator R?, comment 931K
Resistenza SMD TE Connectivity Film sottile; Voltage[V]: 100; Tollerance[%]: 0.1; Serie: CPF; Vendor: TE Connectivity; Type: Resistors; Package: 0805; Power[W]: 0.1; Value[OHM ]: 931K
footprint RES_0816_SUS(My_MAXI)
pins: 1, 2

## RES_942_0.125W_1%_0805
designator R?, comment 942
Resistenza SMD TE Connectivity Film sottile; Voltage[V]: 100; Tollerance[%]: 0.1; Serie: CPF; Vendor: TE Connectivity; Type: Resistors; Package: 0805; Power[W]: 0.1; Value[OHM ]: 942
footprint RES_0816_SUS(My_MAXI)
pins: 1, 2

## RES_942K_0.125W_1%_0805
designator R?, comment 942K
Resistenza SMD TE Connectivity Film sottile; Voltage[V]: 100; Tollerance[%]: 0.1; Serie: CPF; Vendor: TE Connectivity; Type: Resistors; Package: 0805; Power[W]: 0.1; Value[OHM ]: 942K
footprint RES_0816_SUS(My_MAXI)
pins: 1, 2

## RES_953_0.125W_1%_0805
designator R?, comment 953
Resistenza SMD TE Connectivity Film sottile; Voltage[V]: 100; Tollerance[%]: 0.1; Serie: CPF; Vendor: TE Connectivity; Type: Resistors; Package: 0805; Power[W]: 0.1; Value[OHM ]: 953
footprint RES_0816_SUS(My_MAXI)
pins: 1, 2

## RES_953K_0.125W_1%_0805
designator R?, comment 953K
Resistenza SMD TE Connectivity Film sottile; Voltage[V]: 100; Tollerance[%]: 0.1; Serie: CPF; Vendor: TE Connectivity; Type: Resistors; Package: 0805; Power[W]: 0.1; Value[OHM ]: 953K
footprint RES_0816_SUS(My_MAXI)
pins: 1, 2

## RES_965_0.125W_1%_0805
designator R?, comment 965
Resistenza SMD TE Connectivity Film sottile; Voltage[V]: 100; Tollerance[%]: 0.1; Serie: CPF; Vendor: TE Connectivity; Type: Resistors; Package: 0805; Power[W]: 0.1; Value[OHM ]: 965
footprint RES_0816_SUS(My_MAXI)
pins: 1, 2

## RES_965K_0.125W_1%_0805
designator R?, comment 965K
Resistenza SMD TE Connectivity Film sottile; Voltage[V]: 100; Tollerance[%]: 0.1; Serie: CPF; Vendor: TE Connectivity; Type: Resistors; Package: 0805; Power[W]: 0.1; Value[OHM ]: 965K
footprint RES_0816_SUS(My_MAXI)
pins: 1, 2

## RES_976_0.125W_1%_0805
designator R?, comment 976
Resistenza SMD TE Connectivity Film sottile; Voltage[V]: 100; Tollerance[%]: 0.1; Serie: CPF; Vendor: TE Connectivity; Type: Resistors; Package: 0805; Power[W]: 0.1; Value[OHM ]: 976
footprint RES_0816_SUS(My_MAXI)
pins: 1, 2

## RES_976K_0.125W_1%_0805
designator R?, comment 976K
Resistenza SMD TE Connectivity Film sottile; Voltage[V]: 100; Tollerance[%]: 0.1; Serie: CPF; Vendor: TE Connectivity; Type: Resistors; Package: 0805; Power[W]: 0.1; Value[OHM ]: 976K
footprint RES_0816_SUS(My_MAXI)
pins: 1, 2

## RES_988_0.125W_1%_0805
designator R?, comment 988
Resistenza SMD TE Connectivity Film sottile; Voltage[V]: 100; Tollerance[%]: 0.1; Serie: CPF; Vendor: TE Connectivity; Type: Resistors; Package: 0805; Power[W]: 0.1; Value[OHM ]: 988
footprint RES_0816_SUS(My_MAXI)
pins: 1, 2

## RES_988K_0.125W_1%_0805
designator R?, comment 988K
Resistenza SMD TE Connectivity Film sottile; Voltage[V]: 100; Tollerance[%]: 0.1; Serie: CPF; Vendor: TE Connectivity; Type: Resistors; Package: 0805; Power[W]: 0.1; Value[OHM ]: 988K
footprint RES_0816_SUS(My_MAXI)
pins: 1, 2